# Altium schematic symbol library SCH - MCU - ATTINY - MICROCHIP ATTINY40-MMH VQFN20.SchLib: 1 symbol
Pins are listed as number, name and electrical type; pins without a type are passive.

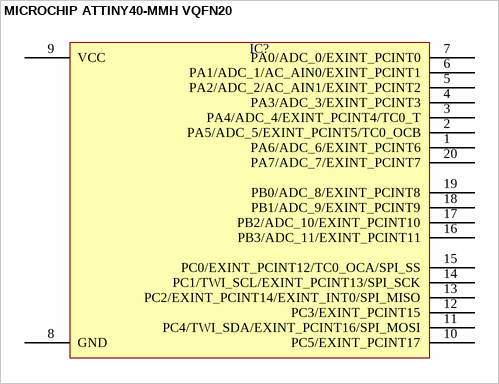
[diagram p0: symbol MICROCHIP ATTINY40-MMH VQFN20]

## MICROCHIP ATTINY40-MMH VQFN20
designator IC?  (value not drawn)
pins: 1 PA6/ADC_6/EXINT_PCINT6, 2 PA5/ADC_5/EXINT_PCINT5/TC0_OCB, 3 PA4/ADC_4/EXINT_PCINT4/TC0_T, 4 PA3/ADC_3/EXINT_PCINT3, 5 PA2/ADC_2/AC_AIN1/EXINT_PCINT2, 6 PA1/ADC_1/AC_AIN0/EXINT_PCINT1, 7 PA0/ADC_0/EXINT_PCINT0, 8 GND, 9 VCC, 10 PC5/EXINT_PCINT17, 11 PC4/TWI_SDA/EXINT_PCINT16/SPI_MOSI, 12 PC3/EXINT_PCINT15, 13 PC2/EXINT_PCINT14/EXINT_INT0/SPI_MISO, 14 PC1/TWI_SCL/EXINT_PCINT13/SPI_SCK, 15 PC0/EXINT_PCINT12/TC0_OCA/SPI_SS, 16 PB3/ADC_11/EXINT_PCINT11, 17 PB2/ADC_10/EXINT_PCINT10, 18 PB1/ADC_9/EXINT_PCINT9, 19 PB0/ADC_8/EXINT_PCINT8, 20 PA7/ADC_7/EXINT_PCINT7